# Altium schematic symbol library Nixie_Tube.SchLib: 6 symbols
Pins are listed as number, name and electrical type; pins without a type are passive.

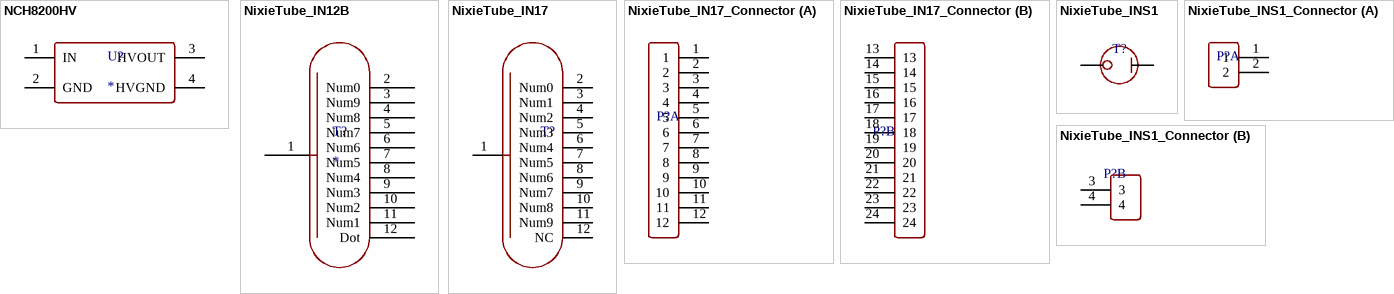
[diagram p0: symbols NCH8200HV to NixieTube_INS1_Connector]

## NCH8200HV
designator U?
footprint NCH8200HV
pins: 1 IN, 2 GND, 3 HVOUT, 4 HVGND

## NixieTube_IN12B
designator T?
footprint IN12B
pins: 1 Anode, 2 Num0, 3 Num9, 4 Num8, 5 Num7, 6 Num6, 7 Num5, 8 Num4, 9 Num3, 10 Num2, 11 Num1, 12 Dot

## NixieTube_IN17
designator T?
footprint IN17
pins: 1 Anode, 2 Num0, 3 Num1, 4 Num2, 5 Num3, 6 Num4, 7 Num5, 8 Num6, 9 Num7, 10 Num8, 11 Num9, 12 NC

## NixieTube_IN17_Connector
designator P?
footprint IN17_Connector
part A pins: 1, 2, 3, 4, 5, 6, 7, 8, 9, 10, 11, 12
part B pins: 13, 14, 15, 16, 17, 18, 19, 20, 21, 22, 23, 24

## NixieTube_INS1
designator T?
footprint INS-1
pins: 1 Anode, 2 Cathode

## NixieTube_INS1_Connector
designator P?
footprint INS-1_Connector
part A pins: 1, 2
part B pins: 3, 4